# Altium schematic symbol library CRCW060322R0FKEA.SchLib: 1 symbol
Pins are listed as number, name and electrical type; pins without a type are passive.

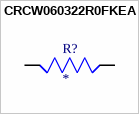
[diagram p0: symbol CRCW060322R0FKEA]

## CRCW060322R0FKEA
designator R?
Resistor;Thick Film;22 Ohms;0.1 W;1%;SMT;0603;TCR 37 ppm/DegC;Tape and Reel | Vishay Dale CRCW060322R0FKEA; SnapEDA_Link: https://www.snapeda.com/parts/CRCW060322R0FKEA/Vishay+Dale/view-part/?ref=snap; Package: 1508 Vishay; Value: *; MF: Vishay Dale; MP: CRCW060322R0FKEA; Check_prices: https://www.snapeda.com/parts/CRCW060322R0FKEA/Vishay+Dale/view-part/?ref=eda
footprint RESC1608X55
pins: 1, 2